# Altium integrated library LM1117T-3.3_NOPB.IntLib: 1 symbol
Pins are listed as number, name and electrical type; pins without a type are passive.

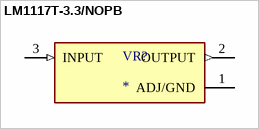
[diagram p0: symbol LM1117T-3.3/NOPB]

## LM1117T-3.3/NOPB
designator VR?
800-mA 15-V linear voltage regulator; MF: Texas Instruments; MP: LM1117T-3.3/NOPB; Package: TO-220-3 Texas Instruments; Price: None; Check_prices: https://www.snapeda.com/parts/LM1117T-3.3/NOPB/Texas+Instruments/view-part/?ref=eda; Value: *; SnapEDA_Link: https://www.snapeda.com/parts/LM1117T-3.3/NOPB/Texas+Instruments/view-part/?ref=snap; Availability: In Stock; Purchase-URL: https://pricing.snapeda.com/search/part/LM1117T-3.3/NOPB/?ref=eda
footprint TO254P1054X470X1955-3
pins: 1 ADJ/GND (power), 2 OUTPUT (out), 3 INPUT (in)